# EAGLE library part HEADER_3X4 (library logic-supply)
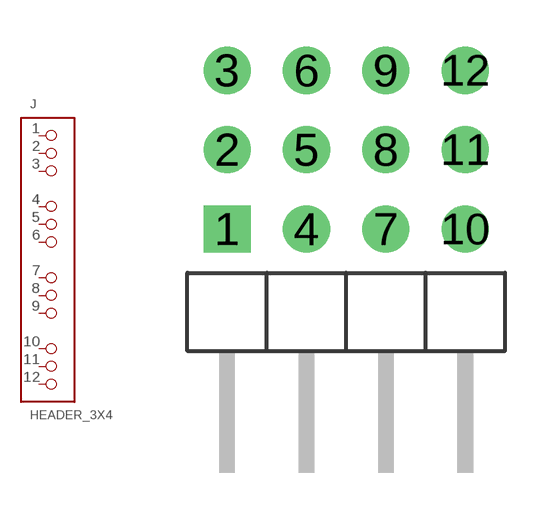
[diagram p43: symbol with the pads of HEADER_3X4_RA; footprint HEADER_3X4_RA]

Designator prefix J

## HEADER_3X4_RA  [HEADER_3X4_RA]
1  P$1
2  P$2
3  P$3
4  P$4
5  P$5
6  P$6
7  P$7
8  P$8
9  P$9
10  P$10
11  P$11
12  P$12

## Footprint HEADER_3X4_RA (pad centres in mm)
drill 1 square: 1 0,0
drill 1: 2 0,2.54; 3 0,5.08; 4 2.54,0; 5 2.54,2.54; 6 2.54,5.08; 7 5.08,0; 8 5.08,2.54; 9 5.08,5.08; 10 7.62,0; 11 7.62,2.54; 12 7.62,5.08